# EAGLE library part MAX253 (library Zoli2_2015-01-28)
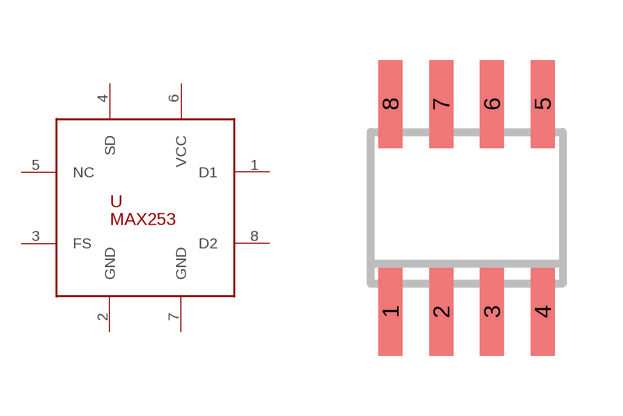
[diagram p73: symbol with the pads of SO8; footprint SO8]

Designator prefix -

## MAX253  [SO8]
1  D1
2  GND  pwr
3  FS  in
4  SD  in
5  NC  nc
6  VCC  pwr
7  GND  pwr
8  D2

## Footprint SO8 (pad centres in mm)
smd 0.6 x 2.2: 1 -1.905,-2.6; 2 -0.635,-2.6; 3 0.635,-2.6; 4 1.905,-2.6; 5 1.905,2.6; 6 0.635,2.6; 7 -0.635,2.6; 8 -1.905,2.6